# Altium schematic symbol library 0.3 - LED发光二极管-IR二极管_接收管-光耦.SchLib: 50 symbols
Pins are listed as number, name and electrical type; pins without a type are passive.

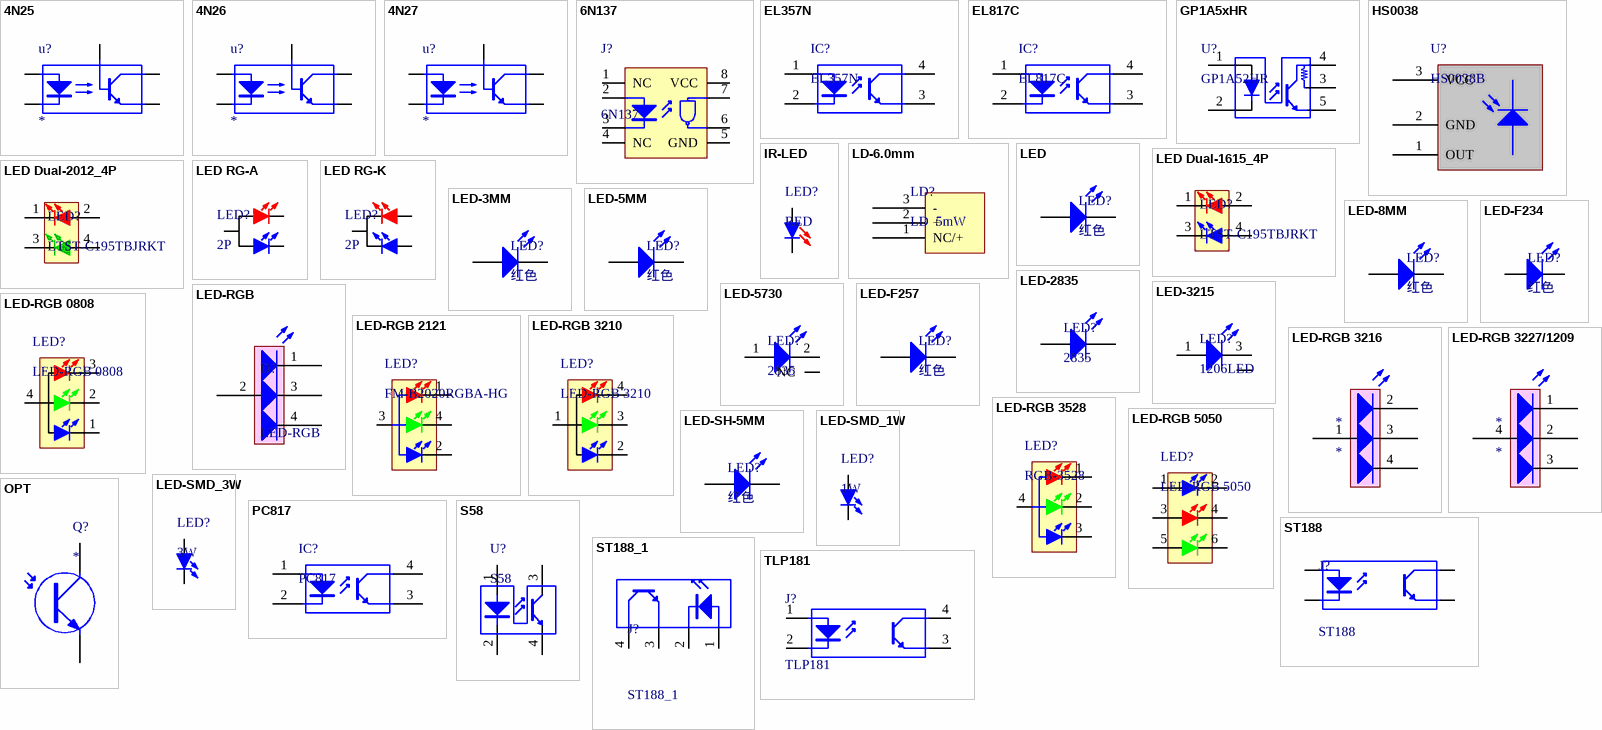
[diagram p0: symbols 4N25 to TLP181]

## 4N25
designator u?
晶体管输出光电耦合器; 封装库来自淘宝卖家：黄晶宝石: 其他店铺购入均为盗版封装库，无更新权益，请立即申请退款，本店现金奖励200~1000元
footprint DIP-6 (6.8*7.6*3.8(长宽高）                联系卖家 免费查找封装)
pins: 1 LED Anode, 2 LED Cathode, 4 Emitter, 5 Collector, 6 BASE

## 4N26
designator u?
晶体管输出光电耦合器; 封装库来自淘宝卖家：黄晶宝石: 其他店铺购入均为盗版封装库，无更新权益，请立即申请退款，本店现金奖励200~1000元
footprint DIP-6 (淘宝ID:黄晶宝石   店铺网址:https://shop463601444.taobao.com)
pins: 1 LED Anode, 2 LED Cathode, 4 Emitter, 5 Collector, 6 BASE

## 4N27
designator u?
晶体管输出光电耦合器; 封装库来自淘宝卖家：黄晶宝石: 其他店铺购入均为盗版封装库，无更新权益，请立即申请退款，本店现金奖励200~1000元
footprint DIP-6 (淘宝ID:黄晶宝石   店铺网址:https://shop463601444.taobao.com)
pins: 1 LED Anode, 2 LED Cathode, 4 Emitter, 5 Collector, 6 BASE

## 6N137
designator J?
10M高速集成光耦; 封装库来自淘宝卖家：黄晶宝石: 其他店铺购入均为盗版封装库，无更新权益，请立即申请退款，本店现金奖励200~1000元; BOM名称: 10M高速集成光耦
footprint DIP8-300 (9.4*7.6*3.8(长宽高）)
footprint DIP8-300_MH (带底座 9.4*7.6*3.8(长宽高）)
footprint SOP8_L (5*6*1.8mm（长宽高）)
footprint SOP8_M (5*6*1.8mm（长宽高）)
footprint SOP8_N (5*6*1.8mm（长宽高）)
pins: 1 NC "Anode", 2 LED+ "Cathode", 3 LED- "Cathode", 4 NC "Cathode", 5 GND "Collector", 6 Vo "Emitter", 7 Ve "Emitter", 8 VCC "Emitter"

## EL357N
designator IC?
线性光耦; 封装库来自淘宝卖家：黄晶宝石: 其他店铺购入均为盗版封装库，无更新权益，请立即申请退款，本店现金奖励200~1000元; BOM名称: 线性光耦
footprint DIP4-300 (4.6*7.6*3.8(长宽高）)
footprint SOP4_N (4.4*6.8*2.1mm（长宽高）)
footprint SOP4_L (4.4*6.8*2.1mm（长宽高）)
footprint SOP4_M (4.4*6.8*2.1mm（长宽高）)
pins: 1 A "Anode", 2 K "Cathode", 3 E "Emitter", 4 C "Collector"

## EL817C
designator IC?
线性光耦; 封装库来自淘宝卖家：黄晶宝石: 其他店铺购入均为盗版封装库，无更新权益，请立即申请退款，本店现金奖励200~1000元; BOM名称: 线性光耦
footprint DIP4-300 (4.6*7.6*3.8(长宽高）)
pins: 1 A "Anode", 2 K "Cathode", 3 E "Emitter", 4 C "Collector"

## GP1A5xHR
designator U?, comment GP1A52HR
槽间光电开关; 封装库来自淘宝卖家：黄晶宝石: 其他店铺购入均为盗版封装库，无更新权益，请立即申请退款，本店现金奖励200~1000元; BOM名称: 槽间光电开关
footprint GP1A52HR (长: 12.5mm,宽:5mm,高:10mm,槽宽:3mm)
footprint GP1A53HR (长: 14mm,宽:5.2mm,高:10mm,槽宽:5mm)
pins: 1 A, 2 K, 3, 4, 5

## HS0038
designator U?, comment HS0038B
红外接收器; 封装库来自淘宝卖家：黄晶宝石: 其他店铺购入均为盗版封装库，无更新权益，请立即申请退款，本店现金奖励200~1000元
footprint HS0038B (红外接收头)
pins: 1 OUT, 2 GND, 3 VCC

## IR-LED
designator LED?, comment RED
红外二极管; 封装库来自淘宝卖家：黄晶宝石: 其他店铺购入均为盗版封装库，无更新权益，请立即申请退款，本店现金奖励200~1000元; BOM名称: 红外二极管
footprint I-LED-3MM
footprint I-LED-5MM
pins: 1 A, 2 K

## LD-6.0mm
designator LD?, comment LD  5mW
5MW激光; 封装库来自淘宝卖家：黄晶宝石: 其他店铺购入均为盗版封装库，无更新权益，请立即申请退款，本店现金奖励200~1000元
footprint LD-6.0 (激光直径6.0mm)
pins: 1 NC/+ (power), 2 + (power), 3 - (power)

## LED
designator LED?, comment 红色
贴片LED; 封装库来自淘宝卖家：黄晶宝石: 其他店铺购入均为盗版封装库，无更新权益，请立即申请退款，本店现金奖励200~1000元; BOM名称: 贴片LED
footprint LED0603_W (白色0603LED)
footprint LED0603_R (红色0603LED)
footprint LED0603_B (蓝色0603LED)
footprint LED0603_G (绿色0603LED)
footprint LED0603_Y (黄色0603LED)
footprint LED0805_G (绿色0805LED)
footprint LED0805_R (红色0805LED)
footprint LED0805_B (蓝色0805LED)
footprint LED0805_Y (黄色0805LED)
footprint LED 3528-2Pin (2脚，3528LED)
footprint LED1206_G (绿色1206LED)
footprint LED 5730-V (紫色5730LED)
footprint LED1206_Y (黄色1206LED)
footprint LED0805_W (白色0805LED)
footprint LED1206_B (蓝色1206LED)
footprint LED1206_W (白色1206LED)
footprint LED1206_R (红色1206LED)
footprint LED0402_B (蓝色0402LED)
footprint LED0402_G (绿色0402LED)
footprint LED0402_R (红色0402LED)
footprint LED0402_W (白色0402LED)
footprint LED0402_Y (黄色0402LED)
footprint LED0201 (0201 LED)
pins: 1 A, 2 K

## LED Dual-1615_4P
designator LED?, comment LTST-C195TBJRKT
1615/0606红蓝双色LED; BOM名称: 三基色LED; 封装库来自淘宝卖家：黄晶宝石: 其他店铺购入均为盗版封装库，无更新权益，请立即申请退款，本店现金奖励200~1000元
footprint LED 1615_SMD_4P
pins: 1 RED_K, 2 RED_A, 3 BULE_K, 4 BULE_A

## LED Dual-2012_4P
designator LED?, comment LTST-C195TBJRKT
2012/0805红绿双色LED; BOM名称: 三基色LED; 封装库来自淘宝卖家：黄晶宝石: 其他店铺购入均为盗版封装库，无更新权益，请立即申请退款，本店现金奖励200~1000元
footprint LED 2012_SMD_4P (0805 4P LED)
pins: 1 RED_K, 2 RED_A, 3 GREEN_K, 4 GREEN__A

## LED RG-A
designator LED?, comment 2P
共阳双色LED; 封装库来自淘宝卖家：黄晶宝石: 其他店铺购入均为盗版封装库，无更新权益，请立即申请退款，本店现金奖励200~1000元; BOM名称: 共阳双色LED
footprint LED 3mm-2P (3mm双色LED)
pins: 1, 2, 3

## LED RG-K
designator LED?, comment 2P
共阴双色LED; 封装库来自淘宝卖家：黄晶宝石: 其他店铺购入均为盗版封装库，无更新权益，请立即申请退款，本店现金奖励200~1000元; BOM名称: 共阴双色LED
footprint LED 3mm-2P (3mm双色LED)
pins: 1, 2, 3

## LED-3MM
designator LED?, comment 红色
直插3mm LED; BOM名称: 插件LED; 封装库来自淘宝卖家：黄晶宝石: 其他店铺购入均为盗版封装库，无更新权益，请立即申请退款，本店现金奖励200~1000元
footprint LED 3MM-B (蓝色3mm直插LED)
footprint LED 3MM-G (绿色3mm直插LED)
footprint LED 3MM-R (红色3mm直插LED)
footprint LED 3MM-Y (黄色3mm直插LED)
footprint LED 3MM-YC (橙色3mm直插LED)
footprint LED 3MM-W (白色3mm直插LED)
footprint LED 3MM-G-H (绿色3mm直插LED  卧式安装)
footprint LED 3MM-R-H (红色3mm直插LED  卧式安装)
footprint LED 3MM-Y-H (黄色3mm直插LED  卧式安装          淘宝卖家ID:黄晶宝石)
pins: 1 A, 2 K

## LED-5MM
designator LED?, comment 红色
直插5mm LED; BOM名称: 5mm插件LED; 封装库来自淘宝卖家：黄晶宝石: 其他店铺购入均为盗版封装库，无更新权益，请立即申请退款，本店现金奖励200~1000元
footprint LED 5MM-B (蓝色5mm直插LED)
footprint LED 5MM-G (绿色5mm直插LED)
footprint LED 5MM-R (红色5mm直插LED)
footprint LED 5MM-Y (黄色5mm直插LED)
footprint LED 5MM-W (白色5mm直插LED)
footprint LED 5MM-YC (橙色5mm直插LED)
footprint LED 5MM-G-H (绿色5mm直插LED  卧式安装)
footprint LED 5MM-R-H (红色5mm直插LED  卧式安装)
footprint LED 5MM-Y-H (黄色5mm直插LED 卧式安装                淘宝卖家ID:黄晶宝石)
pins: 1 A, 2 K

## LED-8MM
designator LED?, comment 红色
直插8mm LED; BOM名称: 8mm插件LED; 封装库来自淘宝卖家：黄晶宝石: 其他店铺购入均为盗版封装库，无更新权益，请立即申请退款，本店现金奖励200~1000元
footprint LED 8MM-B (蓝色8mm直插LED)
footprint LED 8MM-G (绿色8mm直插LED)
footprint LED 8MM-R (红色8mm直插LED)
footprint LED 8MM-Y (黄色8mm直插LED)
pins: 1 A, 2 K

## LED-2835
designator LED?, comment 2835
0.2W 功率LED; BOM名称: 三基色LED; 封装库来自淘宝卖家：黄晶宝石: 其他店铺购入均为盗版封装库，无更新权益，请立即申请退款，本店现金奖励200~1000元
footprint LED 2835-2P
pins: 1 A, 2 K

## LED-3215
designator LED?, comment 1206LED
1206 侧发光LED; 封装库来自淘宝卖家：黄晶宝石: 其他店铺购入均为盗版封装库，无更新权益，请立即申请退款，本店现金奖励200~1000元
footprint LED 3215_3P
pins: 1 A, 2 NC, 3 K

## LED-5730
designator LED?, comment 2835
0.5W 功率LED; BOM名称: 三基色LED; 封装库来自淘宝卖家：黄晶宝石: 其他店铺购入均为盗版封装库，无更新权益，请立即申请退款，本店现金奖励200~1000元
footprint LED 5730-3P
pins: 1 A, 2 K, 3 NC

## LED-F234
designator LED?, comment 红色
234方形LED; BOM名称: 方形LED; 封装库来自淘宝卖家：黄晶宝石: 其他店铺购入均为盗版封装库，无更新权益，请立即申请退款，本店现金奖励200~1000元
footprint LED F234-W (透明色2mm*3mm*4mm(长*宽*高))
footprint LED F234-R (红色2mm*3mm*4mm(长*宽*高))
footprint LED F234-G (绿色2mm*3mm*4mm(长*宽*高))
footprint LED F234-B (蓝色2mm*3mm*4mm(长*宽*高))
footprint LED F234-Y (黄色2mm*3mm*4mm(长*宽*高))
pins: 1 A, 2 K

## LED-F257
designator LED?, comment 红色
257方形LED; BOM名称: 方形LED; 封装库来自淘宝卖家：黄晶宝石: 其他店铺购入均为盗版封装库，无更新权益，请立即申请退款，本店现金奖励200~1000元
footprint LED F257-W (透明色2mm*5mm*7mm(长*宽*高))
footprint LED F257-R (红色2mm*5mm*7mm(长*宽*高))
footprint LED F257-G (绿色2mm*5mm*7mm(长*宽*高))
footprint LED F257-B (蓝色2mm*5mm*7mm(长*宽*高))
footprint LED F257-Y (黄色2mm*5mm*7mm(长*宽*高))
pins: 1 A, 2 K

## LED-RGB
designator D?
直插RGB LED; 封装库来自淘宝卖家：黄晶宝石: 其他店铺购入均为盗版封装库，无更新权益，请立即申请退款，本店现金奖励200~1000元
footprint LED-RGB
pins: 1 R, 2 A, 3 G, 4 B

## LED-RGB 0808
designator LED?
0808 RGB LED; BOM名称: 三基色LED; 封装库来自淘宝卖家：黄晶宝石: 其他店铺购入均为盗版封装库，无更新权益，请立即申请退款，本店现金奖励200~1000元
footprint LED 0808_SMD_4P
pins: 1 BLUE_K, 2 GREEN_K, 3 RED_K, 4 BULE_A

## LED-RGB 2121
designator LED?, comment FM-B2020RGBA-HG
2121/0808 RGB LED; BOM名称: 三基色LED; 封装库来自淘宝卖家：黄晶宝石: 其他店铺购入均为盗版封装库，无更新权益，请立即申请退款，本店现金奖励200~1000元
footprint LED 2121_SMD_4P
pins: 1 RED_K, 2 BULE_K, 3 A, 4 GREEN_K

## LED-RGB 3210
designator LED?
3210/1204 侧发光RGB LED; BOM名称: 三基色LED; 封装库来自淘宝卖家：黄晶宝石: 其他店铺购入均为盗版封装库，无更新权益，请立即申请退款，本店现金奖励200~1000元
footprint LED 3210_SMD_4P
pins: 1 A, 2 BLUE_K, 3 GREEN_K, 4 RED_K

## LED-RGB 3216
designator *
3216/1206 RGB LED; 封装库来自淘宝卖家：黄晶宝石: 其他店铺购入均为盗版封装库，无更新权益，请立即申请退款，本店现金奖励200~1000元; BOM名称: 三基色LED
footprint SMD_1206-4P-L3.2-W1.3
pins: 1 A, 2 R, 3 G, 4 B

## LED-RGB 3227/1209
designator *
3227/1209 RGB LED; 封装库来自淘宝卖家：黄晶宝石: 其他店铺购入均为盗版封装库，无更新权益，请立即申请退款，本店现金奖励200~1000元; BOM名称: 三基色LED
footprint LED-SMD_4PIN-L3.20-W2.70 (封装库来自淘宝卖家 ID：黄晶宝石)
pins: 1 R, 2 G, 3 B, 4 A

## LED-RGB 3528
designator LED?, comment RGB-3528
3528 RGB LED; BOM名称: 三基色LED; 封装库来自淘宝卖家：黄晶宝石: 其他店铺购入均为盗版封装库，无更新权益，请立即申请退款，本店现金奖励200~1000元
footprint LED 3528-4Pin (4脚，3528LED)
pins: 1 RED_K, 2 GREEN_K, 3 BULE_K, 4 A

## LED-RGB 5050
designator LED?
5050 RGB LED; BOM名称: 三基色LED; 封装库来自淘宝卖家：黄晶宝石: 其他店铺购入均为盗版封装库，无更新权益，请立即申请退款，本店现金奖励200~1000元
footprint LED 5050 (白色5050LED)
pins: 1 BULE_A, 2 BULE_K, 3 RED_A, 4 RED_K, 5 GREEN_A, 6 GREEN_K

## LED-SH-5MM
designator LED?, comment 红色
5mm草帽LED; 封装库来自淘宝卖家：黄晶宝石: 其他店铺购入均为盗版封装库，无更新权益，请立即申请退款，本店现金奖励200~1000元; BOM名称: 5mm草帽LED
footprint LED SH-5MM-W (白色5mm草帽，直插LED)
pins: 1 A, 2 K

## LED-SMD_1W
designator LED?, comment 1W
1W大功率LED; BOM名称: 大功率LED; 封装库来自淘宝卖家：黄晶宝石: 其他店铺购入均为盗版封装库，无更新权益，请立即申请退款，本店现金奖励200~1000元
footprint LED 1W/3W-W (白色，大功率LED)
footprint LED 1W/3W (大功率LED)
pins: 1 A, 2 K

## LED-SMD_3W
designator LED?, comment 3W
5W大功率LED; BOM名称: 大功率LED; 封装库来自淘宝卖家：黄晶宝石: 其他店铺购入均为盗版封装库，无更新权益，请立即申请退款，本店现金奖励200~1000元
footprint LED 1W/3W-W (白色，大功率LED)
footprint LED 1W/3W (大功率LED)
pins: 1 A, 2 K

## OPT
designator Q?
红外接收管; 封装库来自淘宝卖家：黄晶宝石: 其他店铺购入均为盗版封装库，无更新权益，请立即申请退款，本店现金奖励200~1000元; BOM名称: 红外接收管
footprint OPT-3MM (3mm红外接收管)
footprint OPT-5MM (5mm红外接收管)
pins: 1, 2

## PC817
designator IC?
线性光耦; 封装库来自淘宝卖家：黄晶宝石: 其他店铺购入均为盗版封装库，无更新权益，请立即申请退款，本店现金奖励200~1000元; BOM名称: 线性光耦
footprint DIP4-300 (4.6*7.6*3.8(长宽高）)
pins: 1 A "Anode", 2 K "Cathode", 3 E "Emitter", 4 C "Collector"

## S58
designator U?
槽间光耦; 封装库来自淘宝卖家：黄晶宝石: 其他店铺购入均为盗版封装库，无更新权益，请立即申请退款，本店现金奖励200~1000元; BOM名称: 槽间光耦
footprint S58 (对射型光耦)
pins: 1 A, 2 K, 3 C, 4 E

## ST188
designator J?
反射式光电传感器; 封装库来自淘宝卖家：黄晶宝石: 其他店铺购入均为盗版封装库，无更新权益，请立即申请退款，本店现金奖励200~1000元
footprint ST188 (反射光电传感器)
pins: 1 A "Anode", 2 K "Cathode", 3 E "Emitter", 4 C "Collector"

## ST188_1
designator J?
反射式光电传感器; BOM名称: 反射型光耦; 封装库来自淘宝卖家：黄晶宝石: 其他店铺购入均为盗版封装库，无更新权益，请立即申请退款，本店现金奖励200~1000元
footprint ST188 (反射型光耦)
pins: 1 A "Anode", 2 K "Cathode", 3 E "Emitter", 4 C "Collector"

## TLP181
designator J?
光耦; 封装库来自淘宝卖家：黄晶宝石: 其他店铺购入均为盗版封装库，无更新权益，请立即申请退款，本店现金奖励200~1000元; BOM名称: 光耦
footprint SOP4_N (4.4*6.8*2.1mm（长宽高）)
footprint SOP4_L (4.4*6.8*2.1mm（长宽高）)
footprint SOP4_M (4.4*6.8*2.1mm（长宽高）)
footprint DIP4-300 (Footprint not found)
pins: 1 A "Anode", 2 K "Cathode", 3 E "Emitter", 4 C "Collector"

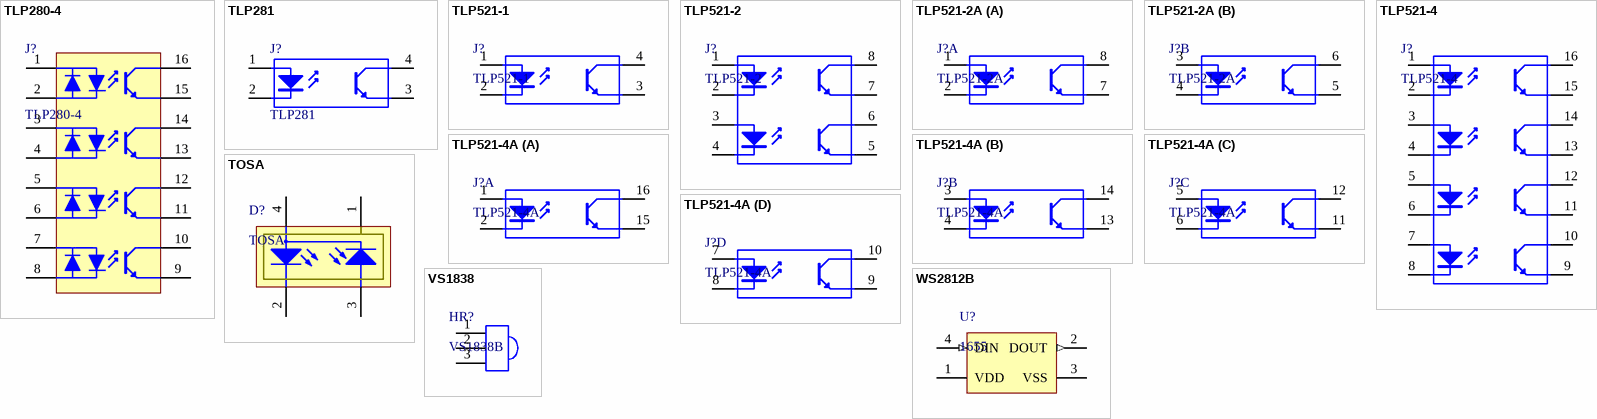
[diagram p1: symbols TLP280-4 to WS2812B]

## TLP280-4
designator J?
4组光耦; 封装库来自淘宝卖家：黄晶宝石: 其他店铺购入均为盗版封装库，无更新权益，请立即申请退款，本店现金奖励200~1000元; BOM名称: 4组光耦
footprint SOP16N_N (10.3*7*1.8mm（长宽高）)
footprint SOP16N_L (10.3*7*1.8mm（长宽高）)
footprint SOP16N_M (10.3*7*1.8mm（长宽高）)
pins: 1 A "Anode", 2 K "Cathode", 3 E "Emitter", 4 C "Collector", 5, 6, 7, 8, 9, 10, 11, 12, 13, 14, 15, 16

## TLP281
designator J?
光耦; 封装库来自淘宝卖家：黄晶宝石: 其他店铺购入均为盗版封装库，无更新权益，请立即申请退款，本店现金奖励200~1000元
footprint SOP4 (间距1.27mm     封装库来自淘宝卖家 ID：黄晶宝石)
pins: 1 A "Anode", 2 K "Cathode", 3 E "Emitter", 4 C "Collector"

## TLP521-1
designator J?
1路开关光耦; 封装库来自淘宝卖家：黄晶宝石: 其他店铺购入均为盗版封装库，无更新权益，请立即申请退款，本店现金奖励200~1000元; BOM名称: 1路开关光耦
footprint DIP4-300 (4.6*7.6*3.8(长宽高）)
footprint SOP4-W2.54_N (6.5*4.58*3.5mm（长宽高）)
footprint SOP4-W2.54_L (6.5*4.58*3.5mm（长宽高）)
footprint SOP4-W2.54_M (6.5*4.58*3.5mm（长宽高）)
pins: 1 A "Anode", 2 K "Cathode", 3 E "Emitter", 4 C "Collector"

## TLP521-2
designator J?
2路开关光耦; 封装库来自淘宝卖家：黄晶宝石: 其他店铺购入均为盗版封装库，无更新权益，请立即申请退款，本店现金奖励200~1000元; BOM名称: 2路开关光耦
footprint DIP8-300 (9.4*7.6*3.8(长宽高）)
footprint SOP8-W2.54_N (6.5*9.66*3.5mm（长宽高）)
footprint SOP8-W2.54_L (6.5*9.66*3.5mm（长宽高）)
footprint SOP8-W2.54_M (6.5*9.66*3.5mm（长宽高）)
pins: 1 1A "Anode", 2 1K "Cathode", 3 2A "Anode", 4 2K "Cathode", 5 2E "Emitter", 6 2C "Collector", 7 1E "Emitter", 8 1C "Collector"

## TLP521-2A
designator J?
2路开关光耦; 封装库来自淘宝卖家：黄晶宝石: 其他店铺购入均为盗版封装库，无更新权益，请立即申请退款，本店现金奖励200~1000元; BOM名称: 2路开关光耦
footprint DIP8-300 (9.4*7.6*3.8(长宽高）)
footprint SOP8-W2.54_N (6.5*9.66*3.5mm（长宽高）)
footprint SOP8-W2.54_L (6.5*9.66*3.5mm（长宽高）)
footprint SOP8-W2.54_M (6.5*9.66*3.5mm（长宽高）)
part A pins: 1 1A "Anode", 2 1K "Cathode", 7 1E "Emitter", 8 1C "Collector"
part B pins: 3 2A "Anode", 4 2K "Cathode", 5 2E "Emitter", 6 2C "Collector"

## TLP521-4
designator J?
4路开关光耦; 封装库来自淘宝卖家：黄晶宝石: 其他店铺购入均为盗版封装库，无更新权益，请立即申请退款，本店现金奖励200~1000元; BOM名称: 4路开关光耦
footprint DIP16-300 (19.3*7.6*3.8(长宽高）)
footprint SOP16-W2.54_N (6.5*19.82*3.5mm（长宽高）)
footprint SOP16-W2.54_L (6.5*19.82*3.5mm（长宽高）)
footprint SOP16-W2.54_M (6.5*19.82*3.5mm（长宽高）)
pins: 1 1A "Anode", 2 1K "Cathode", 3 2A "Anode", 4 2K "Cathode", 5 3A "Anode", 6 3K "Cathode", 7 4A "Anode", 8 4K "Cathode", 9 4E "Emitter", 10 4C "Collector", 11 3E "Emitter", 12 3C "Collector", 13 2E "Emitter", 14 2C "Collector", 15 1E "Emitter", 16 1C "Collector"

## TLP521-4A
designator J?
4路开关光耦; 封装库来自淘宝卖家：黄晶宝石: 其他店铺购入均为盗版封装库，无更新权益，请立即申请退款，本店现金奖励200~1000元; BOM名称: 4路开关光耦
footprint DIP16-300 (19.3*7.6*3.8(长宽高）)
footprint SOP16-W2.54_N (6.5*19.82*3.5mm（长宽高）)
footprint SOP16-W2.54_L (6.5*19.82*3.5mm（长宽高）)
footprint SOP16-W2.54_M (6.5*19.82*3.5mm（长宽高）)
part A pins: 1 1A "Anode", 2 1K "Cathode", 15 1E "Emitter", 16 1C "Collector"
part B pins: 3 2A "Anode", 4 2K "Cathode", 13 2E "Emitter", 14 2C "Collector"
part C pins: 5 3A "Anode", 6 3K "Cathode", 11 3E "Emitter", 12 3C "Collector"
part D pins: 7 4A "Anode", 8 4K "Cathode", 9 4E "Emitter", 10 4C "Collector"

## TOSA
designator D?
激光器; 封装库来自淘宝卖家：黄晶宝石: 其他店铺购入均为盗版封装库，无更新权益，请立即申请退款，本店现金奖励200~1000元
footprint LD-4P
pins: 1 GND, 2 LD-, 3 PD, 4 PW

## VS1838
designator HR?, comment VS1838B
红外接收头; 封装库来自淘宝卖家：黄晶宝石: 其他店铺购入均为盗版封装库，无更新权益，请立即申请退款，本店现金奖励200~1000元; BOM名称: 红外接收头
footprint VS1838B-A (一体红外接收头)
footprint VS1838B-B (一体红外接收头)
footprint VS1838B-B_H (卧式一体红外接收头)
footprint VS1838B-A_H (卧式一体红外接收头)
pins: 1 A "Anode", 2 K "Cathode", 3 E "Emitter"

## WS2812B
designator U?, comment 1655
Intelligent Control LED Integrated Light Source, 3.5 to 5.3 V, -25 to 80 degC, 4-Pin SMD, RoHS, Tape and Reel; BOM名称: RGB LED内置驱动IC; 封装库来自淘宝卖家：黄晶宝石: 其他店铺购入均为盗版封装库，无更新权益，请立即申请退款，本店现金奖励200~1000元; Color: Red,Green,Blue(RGB)
footprint LED-SMD, 4-Leads, Body 5x5mm (WS2812B)
pins: 1 VDD (power), 2 DOUT (out), 3 VSS (power), 4 DIN (in)